# Altium schematic symbol library Oscillator.SchLib: 98 symbols
Pins are listed as number, name and electrical type; pins without a type are passive.

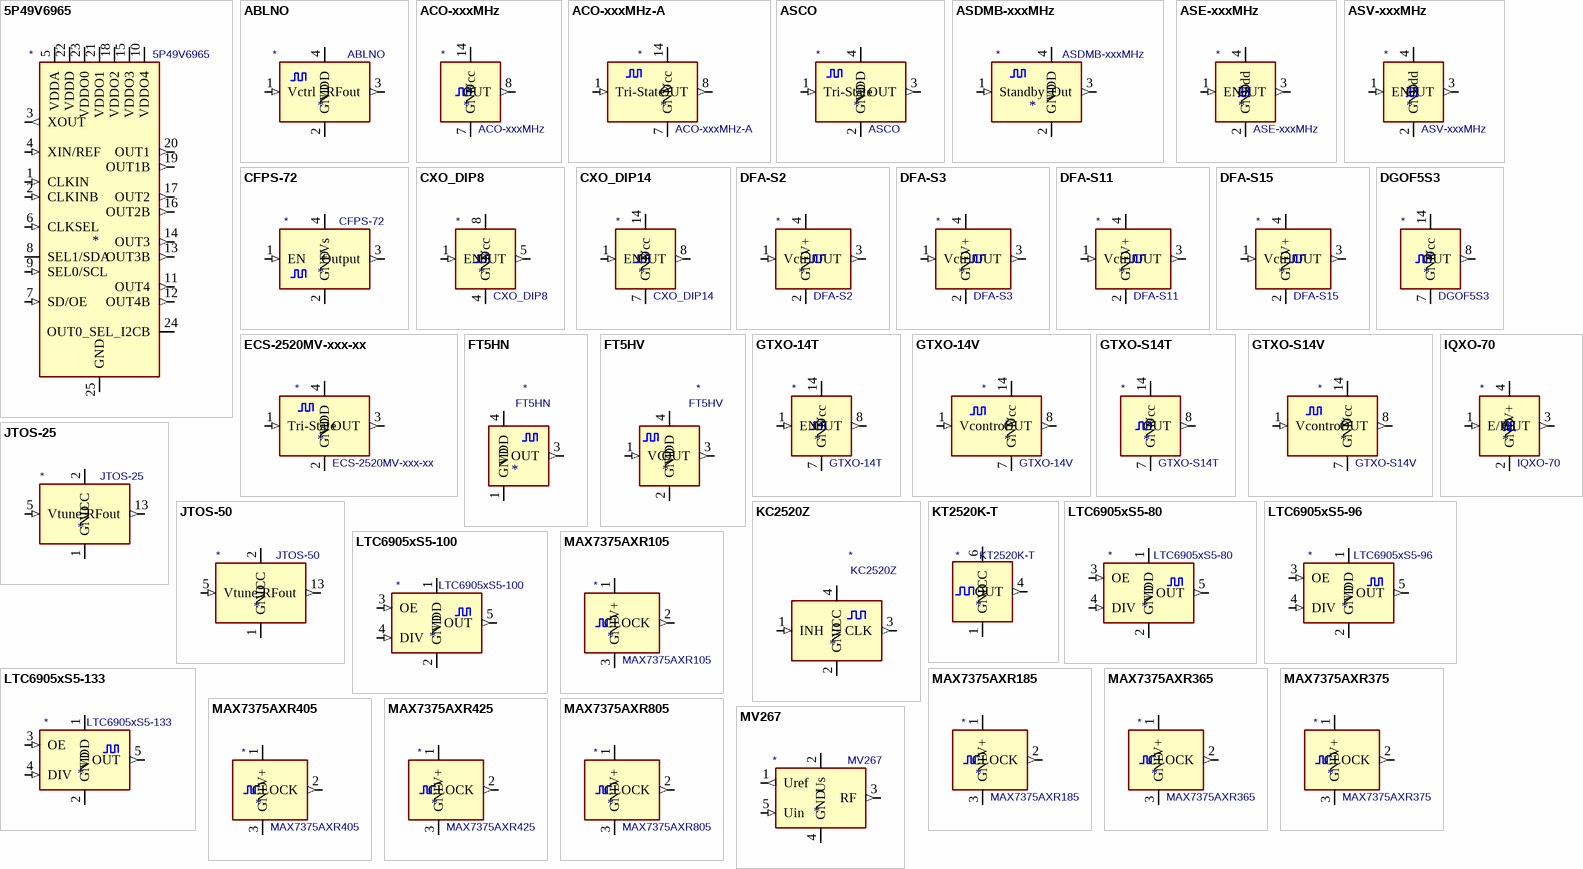
[diagram p0: symbols 5P49V6965 to MV267]

## 5P49V6965
designator *  value 5P49V6965
ki_keywords: Low-noise PLL Reference Clock; ki_description: Programmable Clock Generator, I2C interface, 1kHz-350MHz, QFN-24; ki_fp_filters: QFN*1EP*4x4mm*P0.5mm*; Footprint: Package_DFN_QFN:QFN-24-1EP_4x4mm_P0.5mm_EP2.8x2.8mm; Supplier: https://www.idt.com/document/dst/5p49v6965-datasheet
footprint QFN-24-1EP_4x4mm_P0.5mm_EP2.8x2.8mm
pins: 1 CLKIN (in), 2 CLKINB (in), 3 XOUT (out), 4 XIN/REF (in), 5 VDDA (power), 6 CLKSEL (in), 7 SD/OE (in), 8 SEL1/SDA (io), 9 SEL0/SCL (in), 10 VDDO4 (power), 11 OUT4 (out), 12 OUT4B (out), 13 OUT3B (out), 14 OUT3 (out), 15 VDDO3 (power), 16 OUT2B (out), 17 OUT2 (out), 18 VDDO2 (power), 19 OUT1B (out), 20 OUT1 (out), 21 VDDO1 (power), 22 VDDD (power), 23 VDDO0 (power), 24 OUT0_SEL_I2CB (io), 25 GND (power)

## ABLNO
designator *  value ABLNO
ki_keywords: XO VCXO; ki_description: LVCMOS Ultra Low Phase Noise XO / VCXO, Abracon ABLNO; ki_fp_filters: Oscillator*Abracon*ABLNO*; Footprint: Oscillator:Oscillator_SMD_Abracon_ABLNO; Supplier: https://abracon.com/Precisiontiming/ABLNO.pdf
footprint Oscillator_SMD_Abracon_ABLNO
pins: 1 Vctrl (in), 2 GND (power), 3 RFout (out), 4 VDD (power)

## ACO-xxxMHz
designator *  value ACO-xxxMHz
ki_keywords: Crystal Clock Oscillator; ki_description: HCMOS Crystal Clock Oscillator, DIP14-style metal package; ki_fp_filters: Oscillator*DIP*14*; Footprint: Oscillator:Oscillator_DIP-14; Supplier: http://www.conwin.com/datasheets/cx/cx030.pdf
footprint Oscillator_DIP-14
pins: 1 NC (in) hidden, 7 GND (power), 8 OUT (out), 14 Vcc (power)

## ACO-xxxMHz-A
designator *  value ACO-xxxMHz-A
ki_keywords: Crystal Clock Oscillator; ki_description: HCMOS Crystal Clock Oscillator, DIP14-style metal package; ki_fp_filters: Oscillator*DIP*14*; Footprint: Oscillator:Oscillator_DIP-14; Supplier: http://www.conwin.com/datasheets/cx/cx030.pdf
footprint Oscillator_DIP-14
pins: 1 Tri-State (in), 7 GND (power), 8 OUT (out), 14 Vcc (power)

## ASCO
designator *  value ASCO
ki_keywords: Crystal Clock Oscillator; ki_description: Crystal Clock Oscillator, Abracon ASCO; ki_fp_filters: Oscillator*Abracon*ASCO*1.6x1.2mm*; Footprint: Oscillator:Oscillator_SMD_Abracon_ASCO-4Pin_1.6x1.2mm; Supplier: https://abracon.com/Oscillators/ASCO.pdf
footprint Oscillator_SMD_Abracon_ASCO-4Pin_1.6x1.2mm
pins: 1 Tri-State (in), 2 GND (power), 3 OUT (out), 4 VDD (power)

## ASDMB-xxxMHz
designator *  value ASDMB-xxxMHz
ki_keywords: 1.8-3.3V SMD Ultra Miniature Crystal Clock Oscillator; ki_description: 1.8-3.3V SMD Ultra Miniature Crystal Clock Oscillator, Abracon; ki_fp_filters: Oscillator*SMD*Abracon*ASDMB*2.5x2.0mm*; Footprint: Oscillator:Oscillator_SMD_Abracon_ASDMB-4Pin_2.5x2.0mm; Supplier: https://abracon.com/Oscillators/ASDMB.pdf
footprint Oscillator_SMD_Abracon_ASDMB-4Pin_2.5x2.0mm
pins: 1 Standby (in), 2 GND (power), 3 Out (out), 4 VDD (power)

## ASE-xxxMHz
designator *  value ASE-xxxMHz
ki_keywords: 3.3V CMOS SMD Crystal Clock Oscillator; ki_description: 3.3V CMOS SMD Crystal Clock Oscillator, Abracon; ki_fp_filters: Oscillator*SMD*Abracon*ASE*3.2x2.5mm*; Footprint: Oscillator:Oscillator_SMD_Abracon_ASE-4Pin_3.2x2.5mm; Supplier: http://www.abracon.com/Oscillators/ASV.pdf
footprint Oscillator_SMD_Abracon_ASE-4Pin_3.2x2.5mm
pins: 1 EN (in), 2 GND (power), 3 OUT (out), 4 Vdd (power)

## ASV-xxxMHz
designator *  value ASV-xxxMHz
ki_keywords: 3.3V HCMOS SMD Crystal Clock Oscillator; ki_description: 3.3V HCMOS SMD Crystal Clock Oscillator, Abracon; ki_fp_filters: Oscillator*SMD*Abracon*ASV*7.0x5.1mm*; Footprint: Oscillator:Oscillator_SMD_Abracon_ASV-4Pin_7.0x5.1mm; Supplier: http://www.abracon.com/Oscillators/ASV.pdf
footprint Oscillator_SMD_Abracon_ASV-4Pin_7.0x5.1mm
pins: 1 EN (in), 2 GND (power), 3 OUT (out), 4 Vdd (power)

## CFPS-72
designator *  value CFPS-72
ki_keywords: XO; ki_description: 500kHz-100MHz 5V Crystal Oscillator, IQD CFPS-72; ki_fp_filters: Oscillator*SMD*IQD*IQXO70*7.5x5.0mm*; Footprint: Oscillator:Oscillator_SMD_IQD_IQXO70-4Pin_7.5x5.0mm; Supplier: https://www.iqdfrequencyproducts.com/products/details/cfps-72-14-01.pdf
footprint Oscillator_SMD_IQD_IQXO70-4Pin_7.5x5.0mm
pins: 1 EN (in), 2 GND (power), 3 Output (out), 4 +Vs (power)

## CXO_DIP8
designator *  value CXO_DIP8
ki_keywords: Crystal Clock Oscillator; ki_description: Crystal Clock Oscillator, DIP8-style metal package; ki_fp_filters: Oscillator*DIP*8*; Footprint: Oscillator:Oscillator_DIP-8; Supplier: http://cdn-reichelt.de/documents/datenblatt/B400/OSZI.pdf
footprint Oscillator_DIP-8
pins: 1 EN (in), 4 GND (power), 5 OUT (out), 8 Vcc (power)

## CXO_DIP14
designator *  value CXO_DIP14
ki_keywords: Crystal Clock Oscillator; ki_description: Crystal Clock Oscillator, DIP14-style metal package; ki_fp_filters: Oscillator*DIP*14*; Footprint: Oscillator:Oscillator_DIP-14; Supplier: http://cdn-reichelt.de/documents/datenblatt/B400/OSZI.pdf
footprint Oscillator_DIP-14
pins: 1 EN (in), 7 GND (power), 8 OUT (out), 14 Vcc (power)

## DFA-S2
designator *  value DFA-S2
ki_keywords: Temperature compensated Crystal Clock Oscillator; ki_fp_filters: Oscillator*SMD*Fordahl*DFAS2*7.3x5.1mm*; Footprint: Oscillator:Oscillator_SMD_Fordahl_DFAS2-4Pin_7.3x5.1mm; Supplier: http://www.metatech.com.hk/product/fordahl/pdf/2002%20TCXO%20Page%2043-58.pdf; ki_description: Temperature compensated Crystal Clock Oscillator
footprint Oscillator_SMD_Fordahl_DFAS2-4Pin_7.3x5.1mm
pins: 1 Vctrl (in), 2 GND (power), 3 OUT (out), 4 V+ (power)

## DFA-S3
designator *  value DFA-S3
ki_keywords: Temperature compensated Crystal Clock Oscillator; ki_fp_filters: Oscillator*SMD*Fordahl*DFAS3*9.1x7.2mm*; Footprint: Oscillator:Oscillator_SMD_Fordahl_DFAS3-4Pin_9.1x7.2mm; Supplier: http://www.metatech.com.hk/product/fordahl/pdf/2002%20TCXO%20Page%2043-58.pdf; ki_description: Temperature compensated Crystal Clock Oscillator
footprint Oscillator_SMD_Fordahl_DFAS3-4Pin_9.1x7.2mm
pins: 1 Vctrl (in), 2 GND (power), 3 OUT (out), 4 V+ (power)

## DFA-S11
designator *  value DFA-S11
ki_keywords: Temperature compensated Crystal Clock Oscillator; ki_fp_filters: Oscillator*SMD*Fordahl*DFAS11*7.0x5.0mm*; Footprint: Oscillator:Oscillator_SMD_Fordahl_DFAS11-4Pin_7.0x5.0mm; Supplier: http://www.metatech.com.hk/product/fordahl/pdf/2002%20TCXO%20Page%2043-58.pdf; ki_description: Temperature compensated Crystal Clock Oscillator
footprint Oscillator_SMD_Fordahl_DFAS11-4Pin_7.0x5.0mm
pins: 1 Vctrl (in), 2 GND (power), 3 OUT (out), 4 V+ (power)

## DFA-S15
designator *  value DFA-S15
ki_keywords: Temperature compensated Crystal Clock Oscillator; ki_fp_filters: Oscillator*SMD*Fordahl*DFAS15*5.0x3.2mm*; Footprint: Oscillator:Oscillator_SMD_Fordahl_DFAS15-4Pin_5.0x3.2mm; Supplier: http://www.metatech.com.hk/product/fordahl/pdf/2002%20TCXO%20Page%2043-58.pdf; ki_description: Temperature compensated Crystal Clock Oscillator
footprint Oscillator_SMD_Fordahl_DFAS15-4Pin_5.0x3.2mm
pins: 1 Vctrl (in), 2 GND (power), 3 OUT (out), 4 V+ (power)

## DGOF5S3
designator *  value DGOF5S3
ki_keywords: Crystal Clock Oscillator; ki_description: HCMOS Crystal Clock Oscillator, DIP14-style metal package; ki_fp_filters: Oscillator*DIP*14*; Footprint: Oscillator:Oscillator_DIP-14; Supplier: http://www.conwin.com/datasheets/cx/cx030.pdf
footprint Oscillator_DIP-14
pins: 1 NC (in) hidden, 7 GND (power), 8 OUT (out), 14 Vcc (power)

## ECS-2520MV-xxx-xx
designator *  value ECS-2520MV-xxx-xx
ki_keywords: Crystal Clock Oscillator ECS SMD; ki_description: HCMOS Crystal Clock Oscillator, 2.5x2.0 mm SMD; ki_fp_filters: Oscillator*SMD*ECS*2520MV*2.5x2.0mm*; Footprint: Oscillator:Oscillator_SMD_ECS_2520MV-xxx-xx-4Pin_2.5x2.0mm; Supplier: https://www.ecsxtal.com/store/pdf/ECS-2520MV.pdf
footprint Oscillator_SMD_ECS_2520MV-xxx-xx-4Pin_2.5x2.0mm
pins: 1 Tri-State (in), 2 GND (power), 3 OUT (out), 4 VDD (power)

## FT5HN
designator *  value FT5HN
ki_keywords: TXCO; ki_description: HCMOS temperature compensated oscillator; ki_fp_filters: Oscillator*SMD*Fox*FT5H*5.0x3.2mm*; Footprint: Oscillator:Oscillator_SMD_Fox_FT5H_5.0x3.2mm; Supplier: https://foxonline.com/wp-content/uploads/pdfs/T5HN_T5HV.pdf
footprint Oscillator_SMD_Fox_FT5H_5.0x3.2mm
pins: 1 GND (power), 2 GND hidden, 3 OUT (out), 4 VDD (power)

## FT5HV
designator *  value FT5HV
ki_keywords: TXCO VCTCXO; ki_description: HCMOS temperature compensated voltage controlled oscillator; ki_fp_filters: Oscillator*SMD*Fox*FT5H*5.0x3.2mm*; Footprint: Oscillator:Oscillator_SMD_Fox_FT5H_5.0x3.2mm; Supplier: https://foxonline.com/wp-content/uploads/pdfs/T5HN_T5HV.pdf
footprint Oscillator_SMD_Fox_FT5H_5.0x3.2mm
pins: 1 VC (in), 2 GND (power), 3 OUT (out), 4 VDD (power)

## GTXO-14T
designator *  value GTXO-14T
ki_keywords: Crystal Clock Oscillator; ki_description: Crystal Clock Oscillator, DIP14-style metal package; ki_fp_filters: Oscillator*DIP*14*; Footprint: Oscillator:Oscillator_DIP-14; Supplier: http://www.golledge.com/pdf/products/tcxos/gtxo14.pdf
footprint Oscillator_DIP-14
pins: 1 EN (in), 7 GND (power), 8 OUT (out), 14 Vcc (power)

## GTXO-14V
designator *  value GTXO-14V
ki_keywords: Crystal Clock Oscillator; ki_description: Voltage-Controlled Crystal Clock Oscillator, DIP14-style metal package; ki_fp_filters: Oscillator*DIP*14*; Footprint: Oscillator:Oscillator_DIP-14; Supplier: http://www.golledge.com/pdf/products/tcxos/gtxo14.pdf
footprint Oscillator_DIP-14
pins: 1 Vcontrol (in), 7 GND (power), 8 OUT (out), 14 Vcc (power)

## GTXO-S14T
designator *  value GTXO-S14T
ki_keywords: Crystal Clock Oscillator; ki_description: 3.3 & 5V Stratum 3 Sinewave TCXO, DIP14-style metal package; ki_fp_filters: Oscillator*DIP*14*; Footprint: Oscillator:Oscillator_DIP-14; Supplier: http://www.golledge.com/pdf/products/tcxos/gtxos14.pdf
footprint Oscillator_DIP-14
pins: 1 NC (in) hidden, 7 GND (power), 8 OUT (out), 14 Vcc (power)

## GTXO-S14V
designator *  value GTXO-S14V
ki_keywords: Crystal Clock Oscillator; ki_description: 3.3 & 5V Stratum 3 Sinewave TCXO, DIP14-style metal package; ki_fp_filters: Oscillator*DIP*14*; Footprint: Oscillator:Oscillator_DIP-14; Supplier: http://www.golledge.com/pdf/products/tcxos/gtxos14.pdf
footprint Oscillator_DIP-14
pins: 1 Vcontrol (in), 7 GND (power), 8 OUT (out), 14 Vcc (power)

## IQXO-70
designator *  value IQXO-70
ki_keywords: Crystal Clock Oscillator; ki_description: Crystal Clock Oscillator, SMD package 7.5x5.0mm²; ki_fp_filters: Oscillator*SMD*IQD*IQXO70*7.5x5.0mm*; Footprint: Oscillator:Oscillator_SMD_IQD_IQXO70-4Pin_7.5x5.0mm; Supplier: http://www.iqdfrequencyproducts.com/products/details/iqxo-70-11-30.pdf
footprint Oscillator_SMD_IQD_IQXO70-4Pin_7.5x5.0mm
pins: 1 E/B (in), 2 GND (power), 3 OUT (out), 4 V+ (power)

## JTOS-25
designator *  value JTOS-25
ki_keywords: VCXO; ki_description: Voltage Controlled Oscillator, 12.5 to 25 MHz, Mini-Circuits BK377; ki_fp_filters: Mini?Circuits*BK377*; Footprint: RF_Mini-Circuits:Mini-Circuits_BK377_LandPatternPL-005; Supplier: https://www.minicircuits.com/pdfs/JTOS-25+.pdf
footprint Mini-Circuits_BK377_LandPatternPL-005
pins: 1 GND (power), 2 VCC (power), 3 GND hidden, 4 GND hidden, 5 Vtune (in), 6 GND hidden, 7 GND hidden, 8 GND hidden, 9 GND hidden, 10 GND hidden, 11 GND hidden, 12 GND hidden, 13 RFout (out), 14 GND hidden

## JTOS-50
designator *  value JTOS-50
ki_keywords: VCXO; ki_description: Voltage Controlled Oscillator, 25 to 47 MHz, Mini-Circuits BK377; ki_fp_filters: Mini?Circuits*BK377*; Footprint: RF_Mini-Circuits:Mini-Circuits_BK377_LandPatternPL-005; Supplier: https://www.minicircuits.com/pdfs/JTOS-50+.pdf
footprint Mini-Circuits_BK377_LandPatternPL-005
pins: 1 GND (power), 2 VCC (power), 3 GND hidden, 4 GND hidden, 5 Vtune (in), 6 GND hidden, 7 GND hidden, 8 GND hidden, 9 GND hidden, 10 GND hidden, 11 GND hidden, 12 GND hidden, 13 RFout (out), 14 GND hidden

## KC2520Z
designator *  value KC2520Z
ki_keywords: xo; ki_description: 1.8432MHz ~ 125MHz Crystal Oscillator; ki_fp_filters: Oscillator*SMD*Kyocera*KC2520Z*2.5x2.0mm*; Footprint: Oscillator:Oscillator_SMD_Kyocera_KC2520Z-4Pin_2.5x2.0mm; Supplier: https://global.kyocera.com/prdct/electro/product/pdf/clock_z_xz_e.pdf
footprint Oscillator_SMD_Kyocera_KC2520Z-4Pin_2.5x2.0mm
pins: 1 INH (in), 2 GND (power), 3 CLK (out), 4 VCC (power)

## KT2520K-T
designator *  value KT2520K-T
ki_keywords: tcxo; ki_description: 10-60MHz Temperature Compensated Crystal Oscillator, Kyocera 2520; ki_fp_filters: Oscillator*SMD*Kyocera*2.5x2.0mm*; Footprint: Oscillator:Oscillator_SMD_Kyocera_2520-6Pin_2.5x2.0mm; Supplier: https://global.kyocera.com/prdct/electro/product/pdf/kt2520_e.pdf
footprint Oscillator_SMD_Kyocera_2520-6Pin_2.5x2.0mm
pins: 1 GND (power), 2 NC (in) hidden, 3 GND hidden, 4 OUT (out), 5 NC (in) hidden, 6 VCC (power)

## LTC6905xS5-80
designator *  value LTC6905xS5-80
ki_keywords: oscillator fixed frequency divider silicon; ki_description: 2.7-5.5V 80MHz Precision Fixed Frequency Silicon Oscillator, TSOT-23-5; ki_fp_filters: TSOT?23?5*; Footprint: Package_TO_SOT_SMD:TSOT-23-5; Supplier: https://www.analog.com/media/en/technical-documentation/data-sheets/6905xfa.pdf
footprint TSOT-23-5
pins: 1 VDD (power), 2 GND (power), 3 OE (in), 4 DIV (in), 5 OUT (out)

## LTC6905xS5-96
designator *  value LTC6905xS5-96
ki_keywords: oscillator fixed frequency divider silicon; ki_description: 2.7-5.5V 96MHz Precision Fixed Frequency Silicon Oscillator, TSOT-23-5; ki_fp_filters: TSOT?23?5*; Footprint: Package_TO_SOT_SMD:TSOT-23-5; Supplier: https://www.analog.com/media/en/technical-documentation/data-sheets/6905xfa.pdf
footprint TSOT-23-5
pins: 1 VDD (power), 2 GND (power), 3 OE (in), 4 DIV (in), 5 OUT (out)

## LTC6905xS5-100
designator *  value LTC6905xS5-100
ki_keywords: oscillator fixed frequency divider silicon; ki_description: 2.7-5.5V 100MHz Precision Fixed Frequency Silicon Oscillator, TSOT-23-5; ki_fp_filters: TSOT?23?5*; Footprint: Package_TO_SOT_SMD:TSOT-23-5; Supplier: https://www.analog.com/media/en/technical-documentation/data-sheets/6905xfa.pdf
footprint TSOT-23-5
pins: 1 VDD (power), 2 GND (power), 3 OE (in), 4 DIV (in), 5 OUT (out)

## LTC6905xS5-133
designator *  value LTC6905xS5-133
ki_keywords: oscillator fixed frequency divider silicon; ki_description: 2.7-5.5V 133MHz Precision Fixed Frequency Silicon Oscillator, TSOT-23-5; ki_fp_filters: TSOT?23?5*; Footprint: Package_TO_SOT_SMD:TSOT-23-5; Supplier: https://www.analog.com/media/en/technical-documentation/data-sheets/6905xfa.pdf
footprint TSOT-23-5
pins: 1 VDD (power), 2 GND (power), 3 OE (in), 4 DIV (in), 5 OUT (out)

## MAX7375AXR105
designator *  value MAX7375AXR105
ki_keywords: Silicon Clock Oscillator 1MHz 1000kHz; ki_description: Silicon Clock Oscillator 1MHz, SC-70-3; ki_fp_filters: *SC?70*; Footprint: Package_TO_SOT_SMD:SOT-323_SC-70; Supplier: https://datasheets.maximintegrated.com/en/ds/MAX7375.pdf
footprint SOT-323_SC-70
pins: 1 V+ (power), 2 CLOCK (out), 3 GND (power)

## MAX7375AXR185
designator *  value MAX7375AXR185
ki_keywords: Silicon Clock Oscillator 1,84MHz 1840kHz; ki_description: Silicon Clock Oscillator 1.84MHz, SC-70-3; ki_fp_filters: *SC?70*; Footprint: Package_TO_SOT_SMD:SOT-323_SC-70; Supplier: https://datasheets.maximintegrated.com/en/ds/MAX7375.pdf
footprint SOT-323_SC-70
pins: 1 V+ (power), 2 CLOCK (out), 3 GND (power)

## MAX7375AXR365
designator *  value MAX7375AXR365
ki_keywords: Silicon Clock Oscillator 3.58MHz 3580kHz; ki_description: Silicon Clock Oscillator 3.58MHz, SC-70-3; ki_fp_filters: *SC?70*; Footprint: Package_TO_SOT_SMD:SOT-323_SC-70; Supplier: https://datasheets.maximintegrated.com/en/ds/MAX7375.pdf
footprint SOT-323_SC-70
pins: 1 V+ (power), 2 CLOCK (out), 3 GND (power)

## MAX7375AXR375
designator *  value MAX7375AXR375
ki_keywords: Silicon Clock Oscillator 3.69MHz 3690kHz; ki_description: Silicon Clock Oscillator 3.69MHz, SC-70-3; ki_fp_filters: *SC?70*; Footprint: Package_TO_SOT_SMD:SOT-323_SC-70; Supplier: https://datasheets.maximintegrated.com/en/ds/MAX7375.pdf
footprint SOT-323_SC-70
pins: 1 V+ (power), 2 CLOCK (out), 3 GND (power)

## MAX7375AXR405
designator *  value MAX7375AXR405
ki_keywords: Silicon Clock Oscillator 4MHz 4000kHz; ki_description: Silicon Clock Oscillator 4MHz, SC-70-3; ki_fp_filters: *SC?70*; Footprint: Package_TO_SOT_SMD:SOT-323_SC-70; Supplier: https://datasheets.maximintegrated.com/en/ds/MAX7375.pdf
footprint SOT-323_SC-70
pins: 1 V+ (power), 2 CLOCK (out), 3 GND (power)

## MAX7375AXR425
designator *  value MAX7375AXR425
ki_keywords: Silicon Clock Oscillator 4.19MHz 4190kHz; ki_description: Silicon Clock Oscillator 4.19MHz, SC-70-3; ki_fp_filters: *SC?70*; Footprint: Package_TO_SOT_SMD:SOT-323_SC-70; Supplier: https://datasheets.maximintegrated.com/en/ds/MAX7375.pdf
footprint SOT-323_SC-70
pins: 1 V+ (power), 2 CLOCK (out), 3 GND (power)

## MAX7375AXR805
designator *  value MAX7375AXR805
ki_keywords: Silicon Clock Oscillator 8MHz 8000kHz; ki_description: Silicon Clock Oscillator 8MHz, SC-70-3; ki_fp_filters: *SC?70*; Footprint: Package_TO_SOT_SMD:SOT-323_SC-70; Supplier: https://datasheets.maximintegrated.com/en/ds/MAX7375.pdf
footprint SOT-323_SC-70
pins: 1 V+ (power), 2 CLOCK (out), 3 GND (power)

## MV267
designator *  value MV267
ki_keywords: OCXO; ki_description: 5/10 MHz Low Phase-Noise Precision OCXO, Morion MV267; ki_fp_filters: Oscillator*OCXO*Morion*MV267*; Footprint: Oscillator:Oscillator_OCXO_Morion_MV267; Supplier: http://www.morion.com.ru/catalog_pdf/MV267.pdf
footprint Oscillator_OCXO_Morion_MV267
pins: 1 Uref (out), 2 Us (power), 3 RF (out), 4 GND (power), 5 Uin (in)

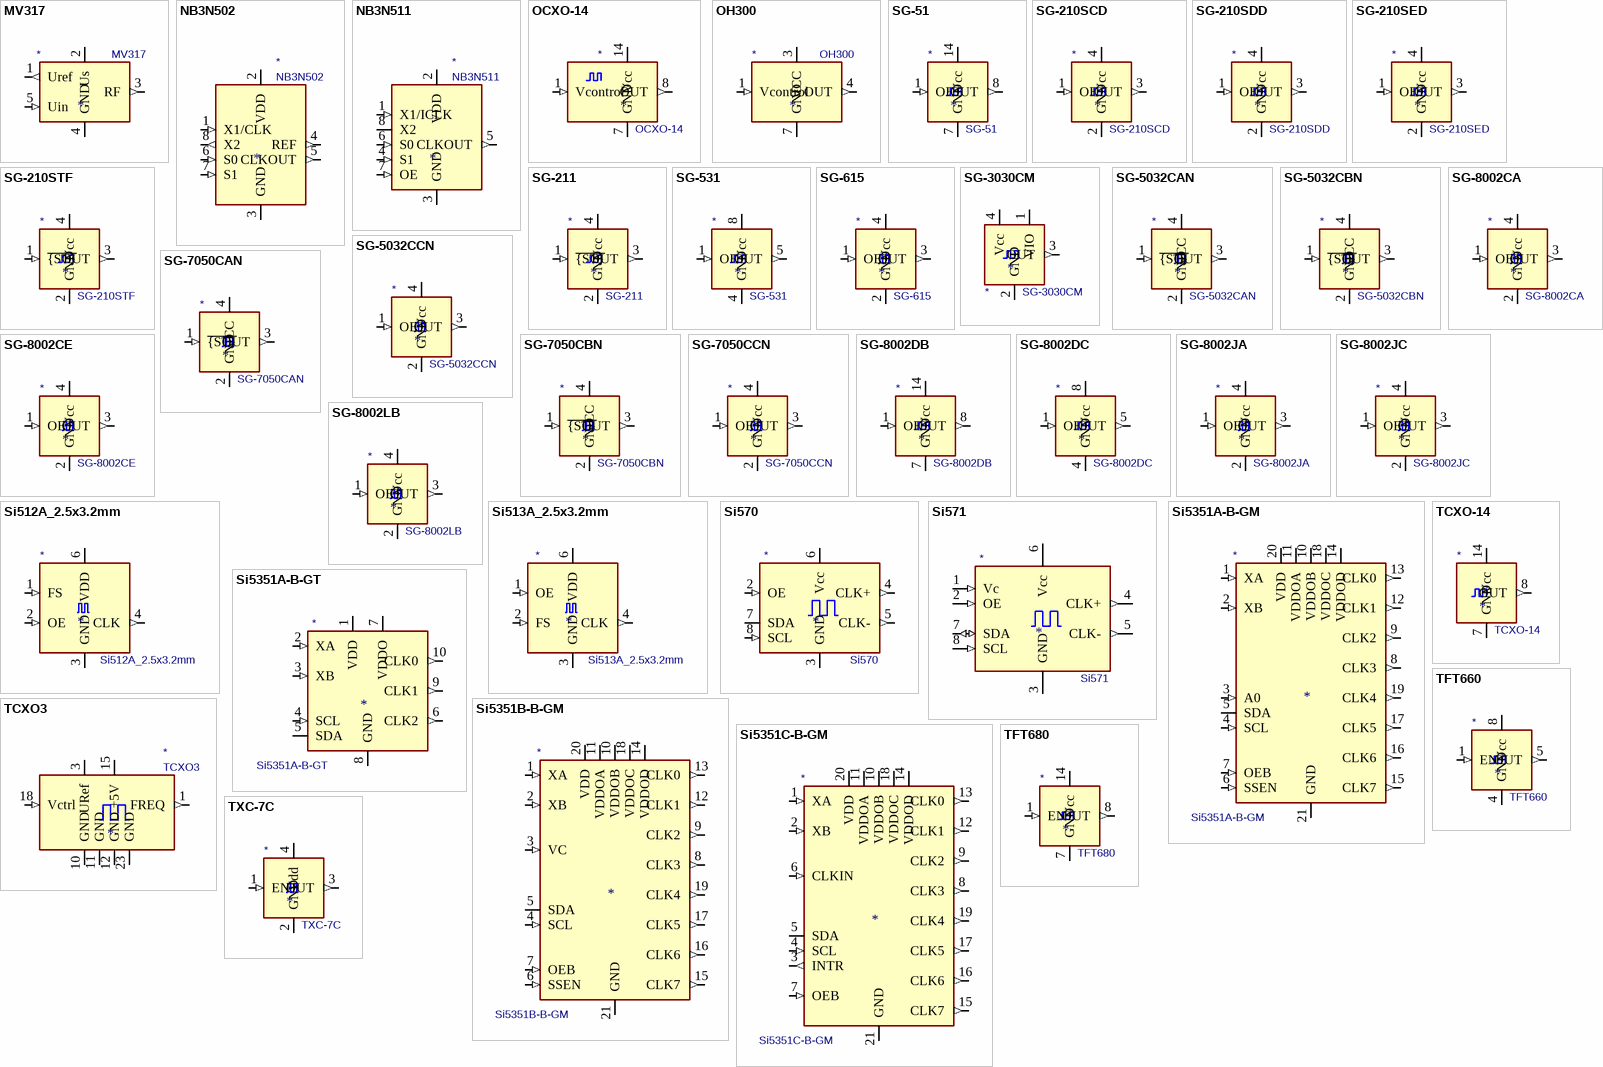
[diagram p1: symbols MV317 to TXC-7C]

## MV317
designator *  value MV317
ki_keywords: OCXO; ki_description: 60, 80, 100, 120 & 122.76 MHz OCXO, Morion MV317; ki_fp_filters: Oscillator*OCXO*Morion*MV317*; Footprint: Oscillator:Oscillator_OCXO_Morion_MV317; Supplier: https://www.morion-us.com/catalog_pdf/mv317.pdf
footprint Oscillator_OCXO_Morion_MV317
pins: 1 Uref (out), 2 Us (power), 3 RF (out), 4 GND (power), 5 Uin (in)

## NB3N502
designator *  value NB3N502
ki_keywords: oscillator clock multiplier PLL; ki_description: 3.3V / 5.0V 14 MHz to 190 MHz PLL Clock Multiplier, SOIC-8; ki_fp_filters: SOIC*3.9x4.9mm*P1.27mm*; Footprint: Package_SO:SOIC-8_3.9x4.9mm_P1.27mm; Supplier: http://www.onsemi.com/pub/Collateral/NB3N502-D.PDF
footprint SOIC-8_3.9x4.9mm_P1.27mm
pins: 1 X1/CLK (in), 2 VDD (power), 3 GND (power), 4 REF (out), 5 CLKOUT (out), 6 S0 (in), 7 S1 (in), 8 X2 (out)

## NB3N511
designator *  value NB3N511
ki_keywords: oscillator clock multiplier PLL; ki_description: 3.3V / 5.0V 14 MHz to 200 MHz PLL Clock Multiplier, SOIC-8; ki_fp_filters: SOIC*3.9x4.9mm*P1.27mm*; Footprint: Package_SO:SOIC-8_3.9x4.9mm_P1.27mm; Supplier: http://www.onsemi.com/pub/Collateral/NB3N511-D.PDF
footprint SOIC-8_3.9x4.9mm_P1.27mm
pins: 1 X1/ICLK (in), 2 VDD (power), 3 GND (power), 4 S1 (in), 5 CLKOUT (out), 6 S0 (in), 7 OE (in), 8 X2

## OCXO-14
designator *  value OCXO-14
ki_keywords: Crystal Clock Oscillator; ki_description: Voltage-Controlled Crystal Clock Oscillator, DIP14-style metal package; ki_fp_filters: Oscillator*DIP*14*; Footprint: Oscillator:Oscillator_DIP-14; Supplier: http://www.petermann-technik.de/fileadmin/petermann/pdf/crystal-oscillators/OCXO-14_PETERMANN-TECHNIK.pdf
footprint Oscillator_DIP-14
pins: 1 Vcontrol (in), 7 GND (power), 8 OUT (out), 14 Vcc (power)

## OH300
designator *  value OH300
ki_keywords: OCXO; ki_description: 100MHz Sinewave output OCXO, low phase-noise, high stability, Connor-Winfield OH300; ki_fp_filters: Oscillator*SMD*OH300*; Footprint: Oscillator:Oscillator_SMD_OCXO_ConnorWinfield_OH300; Supplier: http://www.conwin.com/datasheets/cx/cx282.pdf
footprint Oscillator_SMD_OCXO_ConnorWinfield_OH300
pins: 1 Vcontrol (in), 2 NC (in) hidden, 3 VCC (power), 4 OUT (out), 5 NC (in) hidden, 6 NC (in) hidden, 7 GND (power)

## SG-51
designator *  value SG-51
ki_keywords: Crystal Clock Oscillator; ki_description: CMOS Crystal Clock Oscillator, DIP14-style plastic package; ki_fp_filters: Oscillator*SeikoEpson*SG?8002DB*; Footprint: Oscillator:Oscillator_SeikoEpson_SG-8002DB; Supplier: https://support.epson.biz/td/api/doc_check.php?mode=dl&lang=en&Parts=SG-51P
footprint Oscillator_SeikoEpson_SG-8002DB
pins: 1 OE (in), 7 GND (power), 8 OUT (out), 14 Vcc (power)

## SG-210SCD
designator *  value SG-210SCD
ki_keywords: Crystal Clock Oscillator; ki_description: Crystal Oscillator Low Profile / High Stability SPXO; ki_fp_filters: Oscillator*SMD*SeikoEpson*SG210*2.5x2.0mm*; Footprint: Oscillator:Oscillator_SMD_SeikoEpson_SG210-4Pin_2.5x2.0mm; Supplier: https://support.epson.biz/td/api/doc_check.php?mode=dl&lang=en&Parts=SG-210SED
footprint Oscillator_SMD_SeikoEpson_SG210-4Pin_2.5x2.0mm
pins: 1 OE (in), 2 GND (power), 3 OUT (out), 4 Vcc (power)

## SG-210SDD
designator *  value SG-210SDD
ki_keywords: Crystal Clock Oscillator; ki_description: Crystal Oscillator Low Profile / High Stability SPXO; ki_fp_filters: Oscillator*SMD*SeikoEpson*SG210*2.5x2.0mm*; Footprint: Oscillator:Oscillator_SMD_SeikoEpson_SG210-4Pin_2.5x2.0mm; Supplier: https://support.epson.biz/td/api/doc_check.php?mode=dl&lang=en&Parts=SG-210SED
footprint Oscillator_SMD_SeikoEpson_SG210-4Pin_2.5x2.0mm
pins: 1 OE (in), 2 GND (power), 3 OUT (out), 4 Vcc (power)

## SG-210SED
designator *  value SG-210SED
ki_keywords: Crystal Clock Oscillator; ki_description: Crystal Oscillator Low Profile / High Stability SPXO; ki_fp_filters: Oscillator*SMD*SeikoEpson*SG210*2.5x2.0mm*; Footprint: Oscillator:Oscillator_SMD_SeikoEpson_SG210-4Pin_2.5x2.0mm; Supplier: https://support.epson.biz/td/api/doc_check.php?mode=dl&lang=en&Parts=SG-210SED
footprint Oscillator_SMD_SeikoEpson_SG210-4Pin_2.5x2.0mm
pins: 1 OE (in), 2 GND (power), 3 OUT (out), 4 Vcc (power)

## SG-210STF
designator *  value SG-210STF
ki_keywords: Crystal Clock Oscillator; ki_description: CMOS Crystal Oscillator SPXO; ki_fp_filters: Oscillator*SMD*SeikoEpson*SG210*2.5x2.0mm*; Footprint: Oscillator:Oscillator_SMD_SeikoEpson_SG210-4Pin_2.5x2.0mm; Supplier: https://support.epson.biz/td/api/doc_check.php?mode=dl&lang=en&Parts=SG-210STF
footprint Oscillator_SMD_SeikoEpson_SG210-4Pin_2.5x2.0mm
pins: 1 ~{{ST}} (in), 2 GND (power), 3 OUT (out), 4 Vcc (power)

## SG-211
designator *  value SG-211
ki_keywords: Crystal Clock Oscillator; ki_description: CMOS Crystal Oscillator SPXO; ki_fp_filters: Oscillator*SMD*SeikoEpson*SG210*2.5x2.0mm*; Footprint: Oscillator:Oscillator_SMD_SeikoEpson_SG210-4Pin_2.5x2.0mm; Supplier: https://support.epson.biz/td/api/doc_check.php?mode=dl&lang=en&Parts=SG-211SEE
footprint Oscillator_SMD_SeikoEpson_SG210-4Pin_2.5x2.0mm
pins: 1 ~{{ST}} (in), 2 GND (power), 3 OUT (out), 4 Vcc (power)

## SG-531
designator *  value SG-531
ki_keywords: Crystal Clock Oscillator; ki_description: CMOS Crystal Clock Oscillator, DIP8-style plastic package; ki_fp_filters: Oscillator*SeikoEpson*SG?8002DC*; Footprint: Oscillator:Oscillator_SeikoEpson_SG-8002DC; Supplier: https://support.epson.biz/td/api/doc_check.php?mode=dl&lang=en&Parts=SG-51P
footprint Oscillator_SeikoEpson_SG-8002DC
pins: 1 OE (in), 4 GND (power), 5 OUT (out), 8 Vcc (power)

## SG-615
designator *  value SG-615
ki_keywords: Crystal Clock Oscillator; ki_description: CMOS Clock Oscillator; ki_fp_filters: Oscillator*SMD*SeikoEpson*SG8002JA*14.0x8.7mm*; Footprint: Oscillator:Oscillator_SMD_SeikoEpson_SG8002JA-4Pin_14.0x8.7mm; Supplier: https://support.epson.biz/td/api/doc_check.php?mode=dl&lang=en&Parts=SG-51P
footprint Oscillator_SMD_SeikoEpson_SG8002JA-4Pin_14.0x8.7mm
pins: 1 OE (in), 2 GND (power), 3 OUT (out), 4 Vcc (power)

## SG-3030CM
designator *  value SG-3030CM
ki_keywords: Crystal Clock Oscillator; ki_description: 32.768kHz Crystal Oscillator (SPXO); ki_fp_filters: Oscillator*SMD*SeikoEpson*SG3030CM*; Footprint: Oscillator:Oscillator_SMD_SeikoEpson_SG3030CM; Supplier: https://support.epson.biz/td/api/doc_check.php?mode=dl&lang=en&Parts=SG-3030CM
footprint Oscillator_SMD_SeikoEpson_SG3030CM
pins: 1 VIO (power), 2 GND (power), 3 OUT (out), 4 Vcc (power)

## SG-5032CAN
designator *  value SG-5032CAN
ki_keywords: Crystal Clock Oscillator; ki_description: CMOS Clock Oscillator 1 to 75 MHz; ki_fp_filters: Oscillator*SMD*SeikoEpson*SG8002LB*5.0x3.2mm*; Footprint: Oscillator:Oscillator_SMD_SeikoEpson_SG8002LB-4Pin_5.0x3.2mm; Supplier: https://support.epson.biz/td/api/doc_check.php?dl=brief_SG5032CAN&lang=en
footprint Oscillator_SMD_SeikoEpson_SG8002LB-4Pin_5.0x3.2mm
pins: 1 ~{{ST}} (in), 2 GND (power), 3 OUT (out), 4 VCC (power)

## SG-5032CBN
designator *  value SG-5032CBN
ki_keywords: Crystal Clock Oscillator; ki_description: CMOS Clock Oscillator 80 to 170 MHz; ki_fp_filters: Oscillator*SMD*SeikoEpson*SG8002LB*5.0x3.2mm*; Footprint: Oscillator:Oscillator_SMD_SeikoEpson_SG8002LB-4Pin_5.0x3.2mm; Supplier: https://support.epson.biz/td/api/doc_check.php?dl=brief_SG5032CBN&lang=en
footprint Oscillator_SMD_SeikoEpson_SG8002LB-4Pin_5.0x3.2mm
pins: 1 ~{{ST}} (in), 2 GND (power), 3 OUT (out), 4 VCC (power)

## SG-5032CCN
designator *  value SG-5032CCN
ki_keywords: Crystal Clock Oscillator; ki_description: CMOS Clock Oscillator 2.5 to 50 MHz; ki_fp_filters: Oscillator*SMD*SeikoEpson*SG8002LB*5.0x3.2mm*; Footprint: Oscillator:Oscillator_SMD_SeikoEpson_SG8002LB-4Pin_5.0x3.2mm; Supplier: https://support.epson.biz/td/api/doc_check.php?dl=brief_SG5032CCN&lang=en
footprint Oscillator_SMD_SeikoEpson_SG8002LB-4Pin_5.0x3.2mm
pins: 1 OE (in), 2 GND (power), 3 OUT (out), 4 Vcc (power)

## SG-7050CAN
designator *  value SG-7050CAN
ki_keywords: Crystal Clock Oscillator; ki_description: CMOS Clock Oscillator 1 to 75 MHz; ki_fp_filters: Oscillator*SMD*SeikoEpson*SG8002CA*7.0x5.0mm*; Footprint: Oscillator:Oscillator_SMD_SeikoEpson_SG8002CA-4Pin_7.0x5.0mm; Supplier: https://support.epson.biz/td/api/doc_check.php?dl=brief_SG7050CAN&lang=en
footprint Oscillator_SMD_SeikoEpson_SG8002CA-4Pin_7.0x5.0mm
pins: 1 ~{{ST}} (in), 2 GND (power), 3 OUT (out), 4 VCC (power)

## SG-7050CBN
designator *  value SG-7050CBN
ki_keywords: Crystal Clock Oscillator; ki_description: CMOS Clock Oscillator 80 to 170 MHz; ki_fp_filters: Oscillator*SMD*SeikoEpson*SG8002CA*7.0x5.0mm*; Footprint: Oscillator:Oscillator_SMD_SeikoEpson_SG8002CA-4Pin_7.0x5.0mm; Supplier: https://support.epson.biz/td/api/doc_check.php?dl=brief_SG7050CBN&lang=en
footprint Oscillator_SMD_SeikoEpson_SG8002CA-4Pin_7.0x5.0mm
pins: 1 ~{{ST}} (in), 2 GND (power), 3 OUT (out), 4 VCC (power)

## SG-7050CCN
designator *  value SG-7050CCN
ki_keywords: Crystal Clock Oscillator; ki_description: CMOS Clock Oscillator 2.5 to 50 MHz; ki_fp_filters: Oscillator*SMD*SeikoEpson*SG8002CA*7.0x5.0mm*; Footprint: Oscillator:Oscillator_SMD_SeikoEpson_SG8002CA-4Pin_7.0x5.0mm; Supplier: https://support.epson.biz/td/api/doc_check.php?dl=brief_SG7050CAN&lang=en
footprint Oscillator_SMD_SeikoEpson_SG8002CA-4Pin_7.0x5.0mm
pins: 1 OE (in), 2 GND (power), 3 OUT (out), 4 Vcc (power)

## SG-8002CA
designator *  value SG-8002CA
ki_keywords: Crystal Clock Oscillator; ki_description: CMOS Clock Oscillator 1 to 125 MHz; ki_fp_filters: Oscillator*SMD*SeikoEpson*SG8002CA*7.0x5.0mm*; Footprint: Oscillator:Oscillator_SMD_SeikoEpson_SG8002CA-4Pin_7.0x5.0mm; Supplier: https://support.epson.biz/td/api/doc_check.php?mode=dl&lang=en&Parts=SG-8002DC
footprint Oscillator_SMD_SeikoEpson_SG8002CA-4Pin_7.0x5.0mm
pins: 1 OE (in), 2 GND (power), 3 OUT (out), 4 Vcc (power)

## SG-8002CE
designator *  value SG-8002CE
ki_keywords: Crystal Clock Oscillator; ki_description: CMOS Clock Oscillator; ki_fp_filters: Oscillator*SMD*SeikoEpson*SG8002CE*3.2x2.5mm*; Footprint: Oscillator:Oscillator_SMD_SeikoEpson_SG8002CE-4Pin_3.2x2.5mm; Supplier: https://support.epson.biz/td/api/doc_check.php?mode=dl&lang=en&Parts=SG-8002DC
footprint Oscillator_SMD_SeikoEpson_SG8002CE-4Pin_3.2x2.5mm
pins: 1 OE (in), 2 GND (power), 3 OUT (out), 4 Vcc (power)

## SG-8002DB
designator *  value SG-8002DB
ki_keywords: Crystal Clock Oscillator; ki_description: Crystal Clock Oscillator, DIP14-style plastic package; ki_fp_filters: Oscillator*SeikoEpson*SG?8002DB*; Footprint: Oscillator:Oscillator_SeikoEpson_SG-8002DB; Supplier: https://support.epson.biz/td/api/doc_check.php?dl=brief_SG-8002DB&lang=en
footprint Oscillator_SeikoEpson_SG-8002DB
pins: 1 OE (in), 7 GND (power), 8 OUT (out), 14 Vcc (power)

## SG-8002DC
designator *  value SG-8002DC
ki_keywords: Crystal Clock Oscillator; ki_description: Crystal Clock Oscillator, DIP8-style plastic package; ki_fp_filters: Oscillator*SeikoEpson*SG?8002DC*; Footprint: Oscillator:Oscillator_SeikoEpson_SG-8002DC; Supplier: https://support.epson.biz/td/api/doc_check.php?mode=dl&lang=en&Parts=SG-8002DC
footprint Oscillator_SeikoEpson_SG-8002DC
pins: 1 OE (in), 4 GND (power), 5 OUT (out), 8 Vcc (power)

## SG-8002JA
designator *  value SG-8002JA
ki_keywords: Crystal Clock Oscillator; ki_description: CMOS Clock Oscillator; ki_fp_filters: Oscillator*SMD*SeikoEpson*SG8002JA*14.0x8.7mm*; Footprint: Oscillator:Oscillator_SMD_SeikoEpson_SG8002JA-4Pin_14.0x8.7mm; Supplier: https://support.epson.biz/td/api/doc_check.php?mode=dl&lang=en&Parts=SG-8002DC
footprint Oscillator_SMD_SeikoEpson_SG8002JA-4Pin_14.0x8.7mm
pins: 1 OE (in), 2 GND (power), 3 OUT (out), 4 Vcc (power)

## SG-8002JC
designator *  value SG-8002JC
ki_keywords: Crystal Clock Oscillator; ki_description: CMOS Clock Oscillator; ki_fp_filters: Oscillator*SMD*SeikoEpson*SG8002JC*10.5x5.0mm*; Footprint: Oscillator:Oscillator_SMD_SeikoEpson_SG8002JC-4Pin_10.5x5.0mm; Supplier: https://support.epson.biz/td/api/doc_check.php?mode=dl&lang=en&Parts=SG-8002DC
footprint Oscillator_SMD_SeikoEpson_SG8002JC-4Pin_10.5x5.0mm
pins: 1 OE (in), 2 GND (power), 3 OUT (out), 4 Vcc (power)

## SG-8002LB
designator *  value SG-8002LB
ki_keywords: Crystal Clock Oscillator; ki_description: CMOS Clock Oscillator 1 to 125 MHz; ki_fp_filters: Oscillator*SMD*SeikoEpson*SG8002LB*5.0x3.2mm*; Footprint: Oscillator:Oscillator_SMD_SeikoEpson_SG8002LB-4Pin_5.0x3.2mm; Supplier: https://support.epson.biz/td/api/doc_check.php?dl=brief_SG-8002LB&lang=en
footprint Oscillator_SMD_SeikoEpson_SG8002LB-4Pin_5.0x3.2mm
pins: 1 OE (in), 2 GND (power), 3 OUT (out), 4 Vcc (power)

## Si512A_2.5x3.2mm
designator *  value Si512A_2.5x3.2mm
ki_keywords: Dual frequency crystal oscillator; ki_description: Dual frequency crystal oscillator (XO) 100 kHz to 250 MHz, Single-ended CMOS output; ki_fp_filters: Oscillator*SMD*Silicon*Labs*LGA*2.5x3.2mm*P1.25mm*; Footprint: Oscillator:Oscillator_SMD_Silicon_Labs_LGA-6_2.5x3.2mm_P1.25mm; Supplier: https://www.silabs.com/documents/public/data-sheets/si512-13.pdf
footprint Oscillator_SMD_Silicon_Labs_LGA-6_2.5x3.2mm_P1.25mm
pins: 1 FS (in), 2 OE (in), 3 GND (power), 4 CLK (out), 5 NC (in) hidden, 6 VDD (power)

## Si513A_2.5x3.2mm
designator *  value Si513A_2.5x3.2mm
ki_keywords: Dual frequency crystal oscillator; ki_description: Dual frequency crystal oscillator (XO) 100 kHz to 250 MHz, Single-ended CMOS output; ki_fp_filters: Oscillator*SMD*Silicon*Labs*LGA*2.5x3.2mm*P1.25mm*; Footprint: Oscillator:Oscillator_SMD_Silicon_Labs_LGA-6_2.5x3.2mm_P1.25mm; Supplier: https://www.silabs.com/documents/public/data-sheets/si512-13.pdf
footprint Oscillator_SMD_Silicon_Labs_LGA-6_2.5x3.2mm_P1.25mm
pins: 1 OE (in), 2 FS (in), 3 GND (power), 4 CLK (out), 5 NC (in) hidden, 6 VDD (power)

## Si570
designator *  value Si570
ki_keywords: 10 MHZ TO 1.4 GHZ I2C PROGRAMMABLE XO/VCXO; ki_fp_filters: Oscillator*SI570*SI571*; Footprint: Oscillator:Oscillator_SMD_SI570_SI571_Standard; Supplier: http://www.silabs.com/Support%20Documents/TechnicalDocs/si570.pdf; ki_description: 10 MHZ TO 1.4 GHZ I2C PROGRAMMABLE XO/VCXO
footprint Oscillator_SMD_SI570_SI571_Standard
pins: 1 NC (in) hidden, 2 OE (in), 3 GND (power), 4 CLK+ (out), 5 CLK- (out), 6 Vcc (power), 7 SDA (io), 8 SCL (in)

## Si571
designator *  value Si571
ki_keywords: 10 MHZ TO 1.4 GHZ I2C PROGRAMMABLE XO/VCXO; ki_fp_filters: Oscillator*SI570*SI571*; Footprint: Oscillator:Oscillator_SMD_SI570_SI571_Standard; Supplier: http://www.silabs.com/Support%20Documents/TechnicalDocs/si570.pdf; ki_description: 10 MHZ TO 1.4 GHZ I2C PROGRAMMABLE XO/VCXO
footprint Oscillator_SMD_SI570_SI571_Standard
pins: 1 Vc (in), 2 OE (in), 3 GND (power), 4 CLK+ (out), 5 CLK- (out), 6 Vcc (power), 7 SDA (io), 8 SCL (in)

## Si5351A-B-GM
designator *  value Si5351A-B-GM
ki_keywords: CMOS Synth Oscillator I2C; ki_description: I2C Programmable Any-Frequency CMOS Clock Generator, QFN-20; ki_fp_filters: QFN*1EP*4x4mm*P0.5mm*; Footprint: Package_DFN_QFN:QFN-20-1EP_4x4mm_P0.5mm_EP2.7x2.7mm; Supplier: https://www.silabs.com/documents/public/data-sheets/Si5351-B.pdf
footprint QFN-20-1EP_4x4mm_P0.5mm_EP2.7x2.7mm
pins: 1 XA (in), 2 XB (in), 3 A0 (in), 4 SCL (in), 5 SDA (io), 6 SSEN (in), 7 OEB (in), 8 CLK3 (out), 9 CLK2 (out), 10 VDDOB (power), 11 VDDOA (power), 12 CLK1 (out), 13 CLK0 (out), 14 VDDOD (power), 15 CLK7 (out), 16 CLK6 (out), 17 CLK5 (out), 18 VDDOC (power), 19 CLK4 (out), 20 VDD (power), 21 GND (power)

## Si5351A-B-GT
designator *  value Si5351A-B-GT
ki_keywords: CMOS Synth Oscillator I2C; ki_description: I2C Programmable Any-Frequency CMOS Clock Generator, MSOP-8; ki_fp_filters: MSOP*3x3mm*P0.5mm*; Footprint: Package_SO:MSOP-10_3x3mm_P0.5mm; Supplier: https://www.silabs.com/documents/public/data-sheets/Si5351-B.pdf
footprint MSOP-10_3x3mm_P0.5mm
pins: 1 VDD (power), 2 XA (in), 3 XB (in), 4 SCL (in), 5 SDA (io), 6 CLK2 (out), 7 VDDO (power), 8 GND (power), 9 CLK1 (out), 10 CLK0 (out)

## Si5351B-B-GM
designator *  value Si5351B-B-GM
ki_keywords: CMOS Synth Oscillator I2C VCXO; ki_description: I2C Programmable Any-Frequency CMOS Clock Generator + VCXO, QFN-20; ki_fp_filters: QFN*1EP*4x4mm*P0.5mm*; Footprint: Package_DFN_QFN:QFN-20-1EP_4x4mm_P0.5mm_EP2.7x2.7mm; Supplier: https://www.silabs.com/documents/public/data-sheets/Si5351-B.pdf
footprint QFN-20-1EP_4x4mm_P0.5mm_EP2.7x2.7mm
pins: 1 XA (in), 2 XB (in), 3 VC (in), 4 SCL (in), 5 SDA (io), 6 SSEN (in), 7 OEB (in), 8 CLK3 (out), 9 CLK2 (out), 10 VDDOB (power), 11 VDDOA (power), 12 CLK1 (out), 13 CLK0 (out), 14 VDDOD (power), 15 CLK7 (out), 16 CLK6 (out), 17 CLK5 (out), 18 VDDOC (power), 19 CLK4 (out), 20 VDD (power), 21 GND (power)

## Si5351C-B-GM
designator *  value Si5351C-B-GM
ki_keywords: CMOS Synth Oscillator I2C; ki_description: I2C Programmable Any-Frequency CMOS Clock Generator, QFN-20; ki_fp_filters: QFN*1EP*4x4mm*P0.5mm*; Footprint: Package_DFN_QFN:QFN-20-1EP_4x4mm_P0.5mm_EP2.7x2.7mm; Supplier: https://www.silabs.com/documents/public/data-sheets/Si5351-B.pdf
footprint QFN-20-1EP_4x4mm_P0.5mm_EP2.7x2.7mm
pins: 1 XA (in), 2 XB (in), 3 INTR (out), 4 SCL (in), 5 SDA (io), 6 CLKIN (in), 7 OEB (in), 8 CLK3 (out), 9 CLK2 (out), 10 VDDOB (power), 11 VDDOA (power), 12 CLK1 (out), 13 CLK0 (out), 14 VDDOD (power), 15 CLK7 (out), 16 CLK6 (out), 17 CLK5 (out), 18 VDDOC (power), 19 CLK4 (out), 20 VDD (power), 21 GND (power)

## TCXO3
designator *  value TCXO3
ki_keywords: Temperature compensated crystal oscillator; Supplier: http://www.hcelectronics.cz/PDF/TCXO3_A.pdf; ki_description: Temperature compensated crystal oscillator
pins: 1 FREQ (out), 2 NC (in) hidden, 3 URef (power), 4 NC (in) hidden, 5 NC (in) hidden, 6 NC (in) hidden, 7 NC (in) hidden, 8 NC (in) hidden, 9 NC (in) hidden, 10 GND (power), 11 GND (power), 12 GND (power), 13 NC (in) hidden, 14 NC (in) hidden, 15 +5V (power), 16 NC (in) hidden, 17 NC (in) hidden, 18 Vctrl (in), 19 NC (in) hidden, 20 NC (in) hidden, 21 NC (in) hidden, 22 NC (in) hidden, 23 GND (power)

## TCXO-14
designator *  value TCXO-14
ki_keywords: Crystal Clock Oscillator; ki_description: Temperature Compensated Crystal Clock Oscillator, DIP14-style metal package; ki_fp_filters: Oscillator*DIP*14*; Footprint: Oscillator:Oscillator_DIP-14; Supplier: http://www.golledge.com/pdf/products/tcxos/gtxos14.pdf
footprint Oscillator_DIP-14
pins: 1 NC (in) hidden, 7 GND (power), 8 OUT (out), 14 Vcc (power)

## TFT660
designator *  value TFT660
ki_keywords: Crystal Clock Oscillator; ki_description: Crystal Clock Oscillator, DIP8-style metal package; ki_fp_filters: Oscillator*DIP*8*; Footprint: Oscillator:Oscillator_DIP-8; Supplier: http://cdn-reichelt.de/documents/datenblatt/B400/OSZI.pdf
footprint Oscillator_DIP-8
pins: 1 EN (in), 4 GND (power), 5 OUT (out), 8 Vcc (power)

## TFT680
designator *  value TFT680
ki_keywords: Crystal Clock Oscillator; ki_description: Crystal Clock Oscillator, DIP14-style metal package; ki_fp_filters: Oscillator*DIP*14*; Footprint: Oscillator:Oscillator_DIP-14; Supplier: http://cdn-reichelt.de/documents/datenblatt/B400/OSZI.pdf
footprint Oscillator_DIP-14
pins: 1 EN (in), 7 GND (power), 8 OUT (out), 14 Vcc (power)

## TXC-7C
designator *  value TXC-7C
ki_keywords: CMOS SMD Crystal Clock Oscillator; ki_description: CMOS SMD Crystal Clock Oscillator, TXC; ki_fp_filters: Oscillator*SMD*TXC*7C*5.0x3.2mm*; Footprint: Oscillator:Oscillator_SMD_TXC_7C-4Pin_5.0x3.2mm; Supplier: http://www.txccorp.com/download/products/osc/7C_o.pdf
footprint Oscillator_SMD_TXC_7C-4Pin_5.0x3.2mm
pins: 1 EN (in), 2 GND (power), 3 OUT (out), 4 Vdd (power)

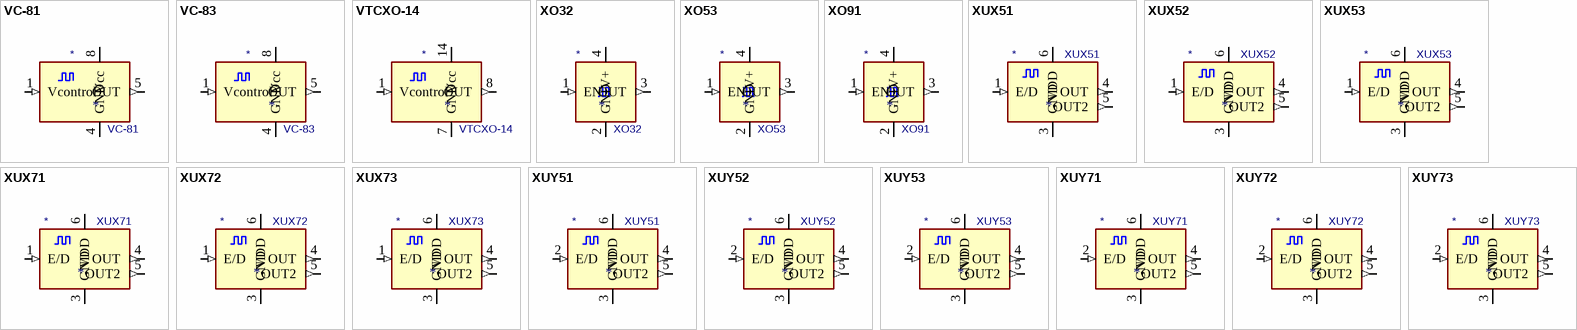
[diagram p2: symbols VC-81 to XUY73]

## VC-81
designator *  value VC-81
ki_keywords: Crystal Clock Oscillator; ki_description: Voltage-Controlled Crystal Clock Oscillator, DIP8-style metal package; ki_fp_filters: Oscillator*DIP*8*; Footprint: Oscillator:Oscillator_DIP-8; Supplier: http://www.scsiglobal.com/Hosonic/Documents/SCSI-VC-81&83.pdf
footprint Oscillator_DIP-8
pins: 1 Vcontrol (in), 4 GND (power), 5 OUT (out), 8 Vcc (power)

## VC-83
designator *  value VC-83
ki_keywords: Crystal Clock Oscillator; ki_description: Voltage-Controlled Crystal Clock Oscillator, DIP8-style metal package; ki_fp_filters: Oscillator*DIP*8*; Footprint: Oscillator:Oscillator_DIP-8; Supplier: http://www.scsiglobal.com/Hosonic/Documents/SCSI-VC-81&83.pdf
footprint Oscillator_DIP-8
pins: 1 Vcontrol (in), 4 GND (power), 5 OUT (out), 8 Vcc (power)

## VTCXO-14
designator *  value VTCXO-14
ki_keywords: Crystal Clock Oscillator; ki_description: Voltage-Controlled Crystal Clock Oscillator, DIP14-style metal package; ki_fp_filters: Oscillator*DIP*14*; Footprint: Oscillator:Oscillator_DIP-14; Supplier: http://www.golledge.com/pdf/products/tcxos/gtxos14.pdf
footprint Oscillator_DIP-14
pins: 1 Vcontrol (in), 7 GND (power), 8 OUT (out), 14 Vcc (power)

## XO32
designator *  value XO32
ki_keywords: Crystal Clock Oscillator; ki_description: HCMOS Clock Oscillator; ki_fp_filters: Oscillator*SMD*EuroQuartz*XO32*3.2x2.5mm*; Footprint: Oscillator:Oscillator_SMD_EuroQuartz_XO32-4Pin_3.2x2.5mm; Supplier: http://cdn-reichelt.de/documents/datenblatt/B400/XO32.pdf
footprint Oscillator_SMD_EuroQuartz_XO32-4Pin_3.2x2.5mm
pins: 1 EN (in), 2 GND (power), 3 OUT (out), 4 V+ (power)

## XO53
designator *  value XO53
ki_keywords: Crystal Clock Oscillator; ki_description: Low Power Consumption Clock Oscillator; ki_fp_filters: Oscillator*SMD*EuroQuartz*XO53*5.0x3.2mm*; Footprint: Oscillator:Oscillator_SMD_EuroQuartz_XO53-4Pin_5.0x3.2mm; Supplier: http://cdn-reichelt.de/documents/datenblatt/B400/XO53.pdf
footprint Oscillator_SMD_EuroQuartz_XO53-4Pin_5.0x3.2mm
pins: 1 EN (in), 2 GND (power), 3 OUT (out), 4 V+ (power)

## XO91
designator *  value XO91
ki_keywords: Crystal Clock Oscillator; ki_description: HCMOS Clock Oscillator; ki_fp_filters: Oscillator*SMD*EuroQuartz*XO91*7.0x5.0mm*; Footprint: Oscillator:Oscillator_SMD_EuroQuartz_XO91-4Pin_7.0x5.0mm; Supplier: http://cdn-reichelt.de/documents/datenblatt/B400/XO91.pdf
footprint Oscillator_SMD_EuroQuartz_XO91-4Pin_7.0x5.0mm
pins: 1 EN (in), 2 GND (power), 3 OUT (out), 4 V+ (power)

## XUX51
designator *  value XUX51
ki_keywords: OTP XHCMOS 1.8V VCXO; ki_description: Low phase noise, quartz-based PLL oscillator, 0.016-1500 MHz, complementary output; ki_fp_filters: Oscillator*JS6*; Footprint: Oscillator:Oscillator_SMD_IDT_JS6-6_5.0x3.2mm_P1.27mm; Supplier: https://www.idt.com/document/dst/xu-family-datasheet
footprint Oscillator_SMD_IDT_JS6-6_5.0x3.2mm_P1.27mm
pins: 1 E/D (in), 2 NC (in) hidden, 3 GND (power), 4 OUT (out), 5 OUT2 (out), 6 VDD (power)

## XUX52
designator *  value XUX52
ki_keywords: OTP XHCMOS 2.5V VCXO; ki_description: Low phase noise, quartz-based PLL oscillator, 0.016-1500 MHz, complementary output; ki_fp_filters: Oscillator*JS6*; Footprint: Oscillator:Oscillator_SMD_IDT_JS6-6_5.0x3.2mm_P1.27mm; Supplier: https://www.idt.com/document/dst/xu-family-datasheet
footprint Oscillator_SMD_IDT_JS6-6_5.0x3.2mm_P1.27mm
pins: 1 E/D (in), 2 NC (in) hidden, 3 GND (power), 4 OUT (out), 5 OUT2 (out), 6 VDD (power)

## XUX53
designator *  value XUX53
ki_keywords: OTP XHCMOS 3.3V VCXO; ki_description: Low phase noise, quartz-based PLL oscillator, 0.016-1500 MHz, complementary output; ki_fp_filters: Oscillator*JS6*; Footprint: Oscillator:Oscillator_SMD_IDT_JS6-6_5.0x3.2mm_P1.27mm; Supplier: https://www.idt.com/document/dst/xu-family-datasheet
footprint Oscillator_SMD_IDT_JS6-6_5.0x3.2mm_P1.27mm
pins: 1 E/D (in), 2 NC (in) hidden, 3 GND (power), 4 OUT (out), 5 OUT2 (out), 6 VDD (power)

## XUX71
designator *  value XUX71
ki_keywords: OTP XHCMOS 1.8V VCXO; ki_description: Low phase noise, quartz-based PLL oscillator, 0.016-1500 MHz, complementary output; ki_fp_filters: Oscillator*JU6*; Footprint: Oscillator:Oscillator_SMD_IDT_JU6-6_7.0x5.0mm_P2.54mm; Supplier: https://www.idt.com/document/dst/xu-family-datasheet
footprint Oscillator_SMD_IDT_JU6-6_7.0x5.0mm_P2.54mm
pins: 1 E/D (in), 2 NC (in) hidden, 3 GND (power), 4 OUT (out), 5 OUT2 (out), 6 VDD (power)

## XUX72
designator *  value XUX72
ki_keywords: OTP XHCMOS 2.5V VCXO; ki_description: Low phase noise, quartz-based PLL oscillator, 0.016-1500 MHz, complementary output; ki_fp_filters: Oscillator*JU6*; Footprint: Oscillator:Oscillator_SMD_IDT_JU6-6_7.0x5.0mm_P2.54mm; Supplier: https://www.idt.com/document/dst/xu-family-datasheet
footprint Oscillator_SMD_IDT_JU6-6_7.0x5.0mm_P2.54mm
pins: 1 E/D (in), 2 NC (in) hidden, 3 GND (power), 4 OUT (out), 5 OUT2 (out), 6 VDD (power)

## XUX73
designator *  value XUX73
ki_keywords: OTP XHCMOS 3.3V VCXO; ki_description: Low phase noise, quartz-based PLL oscillator, 0.016-1500 MHz, complementary output; ki_fp_filters: Oscillator*JU6*; Footprint: Oscillator:Oscillator_SMD_IDT_JU6-6_7.0x5.0mm_P2.54mm; Supplier: https://www.idt.com/document/dst/xu-family-datasheet
footprint Oscillator_SMD_IDT_JU6-6_7.0x5.0mm_P2.54mm
pins: 1 E/D (in), 2 NC (in) hidden, 3 GND (power), 4 OUT (out), 5 OUT2 (out), 6 VDD (power)

## XUY51
designator *  value XUY51
ki_keywords: OTP HCMOS 1.8V VCXO; ki_description: Low phase noise, quartz-based PLL oscillator, 0.016-1500 MHz, complementary output; ki_fp_filters: Oscillator*JS6*; Footprint: Oscillator:Oscillator_SMD_IDT_JS6-6_5.0x3.2mm_P1.27mm; Supplier: https://www.idt.com/document/dst/xu-family-datasheet
footprint Oscillator_SMD_IDT_JS6-6_5.0x3.2mm_P1.27mm
pins: 1 NC (in) hidden, 2 E/D (in), 3 GND (power), 4 OUT (out), 5 OUT2 (out), 6 VDD (power)

## XUY52
designator *  value XUY52
ki_keywords: OTP XHCMOS 2.5V VCXO; ki_description: Low phase noise, quartz-based PLL oscillator, 0.016-1500 MHz, complementary output; ki_fp_filters: Oscillator*JS6*; Footprint: Oscillator:Oscillator_SMD_IDT_JS6-6_5.0x3.2mm_P1.27mm; Supplier: https://www.idt.com/document/dst/xu-family-datasheet
footprint Oscillator_SMD_IDT_JS6-6_5.0x3.2mm_P1.27mm
pins: 1 NC (in) hidden, 2 E/D (in), 3 GND (power), 4 OUT (out), 5 OUT2 (out), 6 VDD (power)

## XUY53
designator *  value XUY53
ki_keywords: OTP XHCMOS 3.3V VCXO; ki_description: Low phase noise, quartz-based PLL oscillator, 0.016-1500 MHz, complementary output; ki_fp_filters: Oscillator*JS6*; Footprint: Oscillator:Oscillator_SMD_IDT_JS6-6_5.0x3.2mm_P1.27mm; Supplier: https://www.idt.com/document/dst/xu-family-datasheet
footprint Oscillator_SMD_IDT_JS6-6_5.0x3.2mm_P1.27mm
pins: 1 NC (in) hidden, 2 E/D (in), 3 GND (power), 4 OUT (out), 5 OUT2 (out), 6 VDD (power)

## XUY71
designator *  value XUY71
ki_keywords: OTP HCMOS 1.8V VCXO; ki_description: Low phase noise, quartz-based PLL oscillator, 0.016-1500 MHz, complementary output; ki_fp_filters: Oscillator*JU6*; Footprint: Oscillator:Oscillator_SMD_IDT_JU6-6_7.0x5.0mm_P2.54mm; Supplier: https://www.idt.com/document/dst/xu-family-datasheet
footprint Oscillator_SMD_IDT_JU6-6_7.0x5.0mm_P2.54mm
pins: 1 NC (in) hidden, 2 E/D (in), 3 GND (power), 4 OUT (out), 5 OUT2 (out), 6 VDD (power)

## XUY72
designator *  value XUY72
ki_keywords: OTP XHCMOS 2.5V VCXO; ki_description: Low phase noise, quartz-based PLL oscillator, 0.016-1500 MHz, complementary output; ki_fp_filters: Oscillator*JU6*; Footprint: Oscillator:Oscillator_SMD_IDT_JU6-6_7.0x5.0mm_P2.54mm; Supplier: https://www.idt.com/document/dst/xu-family-datasheet
footprint Oscillator_SMD_IDT_JU6-6_7.0x5.0mm_P2.54mm
pins: 1 NC (in) hidden, 2 E/D (in), 3 GND (power), 4 OUT (out), 5 OUT2 (out), 6 VDD (power)

## XUY73
designator *  value XUY73
ki_keywords: OTP XHCMOS 3.3V VCXO; ki_description: Low phase noise, quartz-based PLL oscillator, 0.016-1500 MHz, complementary output; ki_fp_filters: Oscillator*JU6*; Footprint: Oscillator:Oscillator_SMD_IDT_JU6-6_7.0x5.0mm_P2.54mm; Supplier: https://www.idt.com/document/dst/xu-family-datasheet
footprint Oscillator_SMD_IDT_JU6-6_7.0x5.0mm_P2.54mm
pins: 1 NC (in) hidden, 2 E/D (in), 3 GND (power), 4 OUT (out), 5 OUT2 (out), 6 VDD (power)